# Altium schematic symbol library Components.SchLib: 31 symbols
Pins are listed as number, name and electrical type; pins without a type are passive.

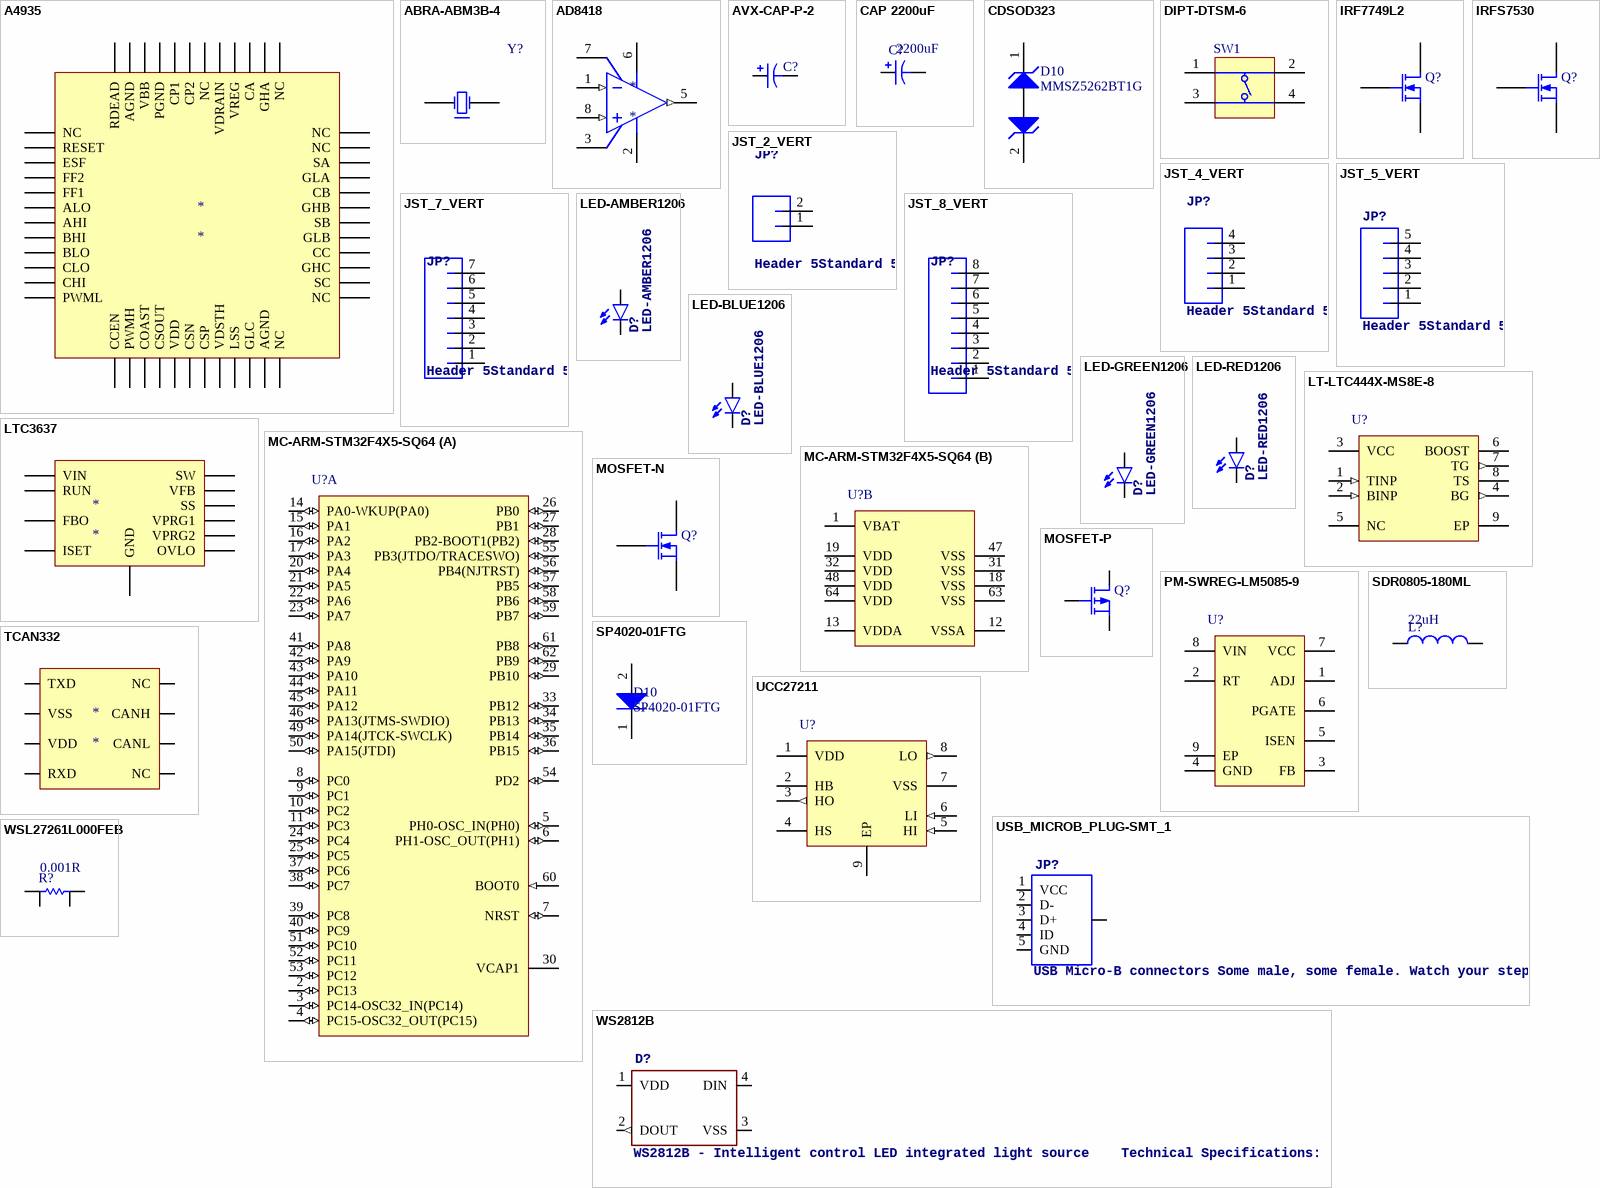
[diagram p0: symbols A4935 to WSL27261L000FEB]

## A4935
designator *
footprint LQFP-48; pin to pad 23>23+47+49 47>47+23+49
pins: 1 NC, 2 RESET, 3 ESF, 4 FF2, 5 FF1, 6 ALO, 7 AHI, 8 BHI, 9 BLO, 10 CLO, 11 CHI, 12 PWML, 13 CCEN, 14 PWMH, 15 COAST, 16 CSOUT, 17 VDD, 18 CSN, 19 CSP, 20 VDSTH, 21 LSS, 22 GLC, 23 AGND, 24 NC, 25 NC, 26 SC, 27 GHC, 28 CC, 29 GLB, 30 SB, 31 GHB, 32 CB, 33 GLA, 34 SA, 35 NC, 36 NC, 37 NC, 38 GHA, 39 CA, 40 VREG, 41 VDRAIN, 42 NC, 43 CP2, 44 CP1, 45 PGND, 46 VBB, 47 AGND, 48 RDEAD

## ABRA-ABM3B-4
designator Y?
footprint ABRA-ABM3B-4_V (SMT Crystal, 4-Leads, Body 5.2x3.4mm)
pins: 1 X1, 2, 3 X2

## AD8418
designator *
footprint MSOP-8 (SOP, 8-Leads, Body 3x3mm, Pitch 0.65mm, IPC Medium Density)
pins: 1 IN- (in), 2 GND (power), 3 VREF2, 5 OUT (out), 6 VS (power), 7 VREF1, 8 IN+ (in)

## AVX-CAP-P-2
designator C?
footprint AVX-CAPC7343_V (SMT Capacitor, 2 Leads, Body 7.3x4.3mm)
pins: 1, 2

## CAP 2200uF
designator C?  value 2200uF
Polarized Capacitor (Axial); Published: 8-Jun-2000; LatestRevisionDate: 17-Jul-2002; LatestRevisionNote: Re-released for DXP Platform.; PackageReference: POLAR0.8; Publisher: Altium Limited; PackageDescription: Polarized Capacitor; 2 Leads
simulation model CAP (Capacitor)
signal-integrity model Cap Pol
footprint BulkCapacitor
pins: 1, 2
1 alternate drawing of the same symbol

## CDSOD323
designator D10, comment MMSZ5262BT1G
Zener Voltage Regulator, 500 mW, 2-Pin SOD-123, Pb-Free, Tape and Reel; Manufacturer: On Semiconductor; P Max (W): 0.5; VZ Typ (V): 51; PartNumber: MMSZ5262BT1G; PackageVersion: Rev. G, 10/2009; ComponentLink3Description: Package Specification; PackageReference: SOD-123-2-425-04; PackageDescription: 2-Pin SOD, Body 1.6 x 2.69 mm; ComponentLink1Description: Manufacturer URL; ComponentLink2Description: Datasheet; DatasheetVersion: Rev. 12; Mounting Technology: Surface Mount; Packing: Tape and Reel; RoHS: Pb-Free; ComponentLink1URL: http://www.onsemi.com/; ComponentLink3URL: http://www.onsemi.com/pub_link/Collateral/425-04.PDF; ComponentLink2URL: http://www.onsemi.com/pub_link/Collateral/MMSZ5221BT1-D.PDF
footprint SOD323 (SODFL, 2-Leads, Body 1.30x2.57mm, IPC Medium Density)
pins: 1 K, 2 K

## DIPT-DTSM-6
designator SW1
Switch, SPNO Push Button SMD; Manufacturer: Diptronics; PartNumber: DTSM-61NT/R; Packing Type: Tape&Reel; Mechanical Life: 200,000 cycles; ComponentLink2URL: http://www.dip.com.tw/Products_tact.htm; ComponentLink1URL: http://www.dip.com.tw/; ComponentLink3URL: http://www.dip.com.tw/PDF/pro_tact/DTSM_G_-6_2_-V.pdf; PackageDescription: Switch, Through-Hole, 4 Leads, Body 8.5x8.5mm, Row Spacing 9.0mm, Pitch 4.5mm; ComponentLink2Description: Datasheet; ComponentLink3Description: Package Specification; ComponentLink1Description: Manufacturer URL; PackageReference: DTSM-6; Mounting Technology: Through Hole
footprint DIPT-DTSM-6_V (Switch, Through-Hole, 4 Leads, Body 8.5x8.5mm, Row Spacing 9.0mm, Pitch 4.5mm)
footprint SWITCH
pins: 1 T1, 2 T2, 3 T3, 4 T3

## IRF7749L2
designator Q?
N-Channel MOSFET; Published: 8-Jun-2000; LatestRevisionDate: 17-Jul-2002; LatestRevisionNote: Re-released for DXP Platform.; PackageVersion: 1995/1996; PackageReference: E3; Publisher: Altium Limited; PackageDescription: TO, Flat Index; 3 In-Line, Axial Leads; Body Dia. 4.6mm; Lead Dia. 0.5 mm (max)
footprint DIRECTFET-9
pins: 1 G, 2 S, 3 D

## IRFS7530
designator Q?
N-Channel MOSFET; Published: 8-Jun-2000; LatestRevisionDate: 17-Jul-2002; LatestRevisionNote: Re-released for DXP Platform.; PackageVersion: 1995/1996; PackageReference: E3; Publisher: Altium Limited; PackageDescription: TO, Flat Index; 3 In-Line, Axial Leads; Body Dia. 4.6mm; Lead Dia. 0.5 mm (max)
footprint DPAK127P1525X483-7N (D2-PAK, 7-Pads, Body 7.93x8.63mm (max), IPC Medium Density); pin to pad 1>8 2>1 3>2
pins: 1 D, 2 G, 3 S

## JST_2_VERT
designator JP?, comment Header 5Standard 5-pin 0.1" header. Use with straight break away headers (SKU : PRT-00116), right angle break away headers (PRT-00553), swiss pins (PRT-00743), machine pins (PRT-00117), and female headers (PRT-00115). Molex polarized connector foot print use with SKU : PRT-08230 with associated crimp pins and housings.
footprint JST-2-PTH-VERT
pins: 1, 2

## JST_4_VERT
designator JP?, comment Header 5Standard 5-pin 0.1" header. Use with straight break away headers (SKU : PRT-00116), right angle break away headers (PRT-00553), swiss pins (PRT-00743), machine pins (PRT-00117), and female headers (PRT-00115). Molex polarized connector foot print use with SKU : PRT-08230 with associated crimp pins and housings.
footprint JST-4-PTH-VERT
pins: 1, 2, 3, 4

## JST_5_VERT
designator JP?, comment Header 5Standard 5-pin 0.1" header. Use with straight break away headers (SKU : PRT-00116), right angle break away headers (PRT-00553), swiss pins (PRT-00743), machine pins (PRT-00117), and female headers (PRT-00115). Molex polarized connector foot print use with SKU : PRT-08230 with associated crimp pins and housings.
footprint JST-5-PTH-VERT
pins: 1, 2, 3, 4, 5

## JST_7_VERT
designator JP?, comment Header 5Standard 5-pin 0.1" header. Use with straight break away headers (SKU : PRT-00116), right angle break away headers (PRT-00553), swiss pins (PRT-00743), machine pins (PRT-00117), and female headers (PRT-00115). Molex polarized connector foot print use with SKU : PRT-08230 with associated crimp pins and housings.
footprint JST-7-PTH-VERT
pins: 1, 2, 3, 4, 5, 6, 7

## JST_8_VERT
designator JP?, comment Header 5Standard 5-pin 0.1" header. Use with straight break away headers (SKU : PRT-00116), right angle break away headers (PRT-00553), swiss pins (PRT-00743), machine pins (PRT-00117), and female headers (PRT-00115). Molex polarized connector foot print use with SKU : PRT-08230 with associated crimp pins and housings.
footprint JST-8-PTH-VERT
pins: 1, 2, 3, 4, 5, 6, 7, 8

## LED-AMBER1206
designator D?
footprint LED-1206
pins: A, C

## LED-BLUE1206
designator D?
PROD_ID: DIO-09911
footprint LED-1206
pins: A, C

## LED-GREEN1206
designator D?
PROD_ID: DIO-00862
footprint LED-1206
pins: A, C

## LED-RED1206
designator D?
PROD_ID: DIO-09912
footprint LED-1206
pins: A, C

## LT-LTC444X-MS8E-8
designator U?
footprint LT-MS8E-8-EDP_L (SOP, 8-Leads, Body 3.1x3.1mm, Pitch 0.65mm, Thermal Pad 1.88x1.68mm, IPC High Density)
pins: 1 TINP (in) "High Side Input Signal. Input referenced to GND. This input controls the high side driver output (TG).", 2 BINP (in) "Low Side Input Signal. This input controls the low side driver output (BG).", 3 VCC (power) "Supply. This pin powers input buffers, logic and the low side gate driver output directly and the high side gate driver output through an external diode connected between this pin and BOOST (Pin 6). A low ESR ceramic bypass (See Datasheet)", 4 BG (out) "Low Side Gate Driver Output (Bottom Gate).This pin swings between VCC and GND.", 5 NC "No Connect. No connection required.", 6 BOOST "High Side Bootstrapped Supply. An external capacitor should be tied between this pin and TS (Pin 8). Normally, a bootstrap diode is connected between VCC (Pin 3) and this pin. Voltage swing at this pin is from VCC - VD to (See Datasheet)", 7 TG (out) "High Side Gate Driver Output (Top Gate). This pin swings between TS and BOOST.", 8 TS "High Side MOSFET Source Connection (TopSource)", 9 EP (power) "Ground. Must be soldered to PCB ground for optimal thermal performance."

## LTC3637
designator *
footprint SON50P300X85_HS-17N (SON, 16-Leads, Body 5.00x3.00mm, Pitch 0.50mm, Thermal Pad 4.40x1.49mm, IPC Medium Density); pin to pad 17>8+16+17
pins: 1 SW, 3 VIN, 5 FBO, 6 VPRG2, 7 VPRG1, 9 VFB, 10 SS, 11 ISET, 12 OVLO, 14 RUN, 17 GND

## MC-ARM-STM32F4X5-SQ64
designator U?
footprint STM-LQFP64_N (Thin QFP, 64-Leads, Body 10x10mm, Pitch 0.5mm, IPC Medium Density)
part A pins: 2 PC13 (io) "PC13/EVENTOUT/RTC_OUT,RTC_TAMP1,RTC_TS", 3 PC14-OSC32_IN(PC14) (io) "PC14-OSC32_IN(PC14)/EVENTOUT/OSC32_IN", 4 PC15-OSC32_OUT(PC15) (io) "PC15-OSC32_OUT(PC15)/EVENTOUT/OSC32_OUT", 5 PH0-OSC_IN(PH0) (io) "PH0-OSC_IN(PH0)/EVENTOUT/OSC_IN", 6 PH1-OSC_OUT(PH1) (io) "PH1-OSC_OUT(PH1)/EVENTOUT/OSC_OUT", 7 NRST (io), 8 PC0 (io) "PC0/OTG_HS_ULPI_STP/EVENTOUT/ADC123_IN10", 9 PC1 (io) "PC1/ETH_MDC/EVENTOUT/ADC123_IN11", 10 PC2 (io) "PC2/SPI2_MISO/OTG_HS_ULPI_DIR/ETH_MII_TXD2/I2S2ext_SD/EVENTOUT/ADC123_IN12", 11 PC3 (io) "PC3/SPI2_MOSI/I2S2_SD/OTG_HS_ULPI_NXT/ETH_MII_TX_CLK/EVENTOUT/ADC123_IN13", 14 PA0-WKUP(PA0) (io) "PA0-WKUP(PA0)/USART2_CTS/UART4_TX/ETH_MII_CRS/TIM2_CH1_ETR/TIM5_CH1/TIM8_ETR/EVENTOUT/ADC123_IN0/WKUP", 15 PA1 (io) "PA1/USART2_RTS/UART4_RX/ETH_RMII_REF_CLK/ETH_MII_RX_CLK/TIM5_CH2/TIM2_CH2/EVENTOUT/ADC123_IN1", 16 PA2 (io) "PA2/USART2_TX/TIM5_CH3/TIM9_CH1/TIM2_CH3/ETH_MDIO/EVENTOUT/ADC123_IN2", 17 PA3 (io) "PA3/USART2_RX/TIM5_CH4/TIM9_CH2/TIM2_CH4/OTG_HS_ULPI_D0/ETH_MII_COL/EVENTOUT/ADC123_IN3", 20 PA4 (io) "PA4/SPI1_NSS/SPI3_NSS/USART2_CK/DCMI_HSYNC/OTG_HS_SOF/I2S3_WS/EVENTOUT/ADC12_IN4/DAC_OUT1", 21 PA5 (io) "PA5/SPI1_SCK/OTG_HS_ULPI_CK/TIM2_CH1_ETR/TIM8_CH1N/EVENTOUT/ADC12_IN5/DAC_OUT2", 22 PA6 (io) "PA6/SPI1_MISO/TIM8_BKIN/TIM13_CH1/DCMI_PIXCLK/TIM3_CH1/TIM1_BKIN/EVENTOUT/ADC12_IN6", 23 PA7 (io) "PA7/SPI1_MOSI/TIM8_CH1N/TIM14_CH1/TIM3_CH2/ETH_MII_RX_DV/TIM1_CH1N/ETH_RMII_CRS_DV/EVENTOUT/ADC12_IN7", 24 PC4 (io) "PC4/ETH_RMII_RX_D0/ETH_MII_RX_D0/EVENTOUT/ADC12_IN14", 25 PC5 (io) "PC5/ETH_RMII_RX_D1/ETH_MII_RX_D1/EVENTOUT/ADC12_IN15", 26 PB0 (io) "PB0/TIM3_CH3/TIM8_CH2N/OTG_HS_ULPI_D1/ETH_MII_RXD2/TIM1_CH2N/EVENTOUT/ADC12_IN8", 27 PB1 (io) "PB1/TIM3_CH4/TIM8_CH3N/OTG_HS_ULPI_D2/ETH_MII_RXD3/TIM1_CH3N/EVENTOUT/ADC12_IN9", 28 PB2-BOOT1(PB2) (io) "PB2-BOOT1(PB2)/EVENTOUT", 29 PB10 (io) "PB10/SPI2_SCK/I2S2_CK/I2C2_SCL/USART3_TX/OTG_HS_ULPI_D3/ETH_MII_RX_ER/TIM2_CH3/EVENTOUT", 30 VCAP1 (power) "PB11/I2C2_SDA/USART3_RX/OTG_HS_ULPI_D4/ETH_RMII_TX_EN/ETH_MII_TX_EN/TIM2_CH4/EVENTOUT", 33 PB12 (io) "PB12/SPI2_NSS/I2S2_WS/I2C2_SMBA/USART3_CK/TIM1_BKIN/CAN2_RX/OTG_HS_ULPI_D5/ETH_RMII_TXD0/ETH_MII_TXD0/OTG_HS_ID/EVENTOUT", 34 PB13 (io) "PB13/SPI2_SCK/I2S2_CK/USART3_CTS/TIM1_CH1N/CAN2_TX/OTG_HS_ULPI_D6/ETH_RMII_TXD1/ETH_MII_TXD1/EVENTOUT/OTG_HS_VBUS", 35 PB14 (io) "PB14/SPI2_MISO/TIM1_CH2N/TIM12_CH1/OTG_HS_DM/USART3_RTS/TIM8_CH2N/I2S2ext_SD/EVENTOUT", 36 PB15 (io) "PB15/SPI2_MOSI/I2S2_SD/TIM1_CH3N/TIM8_CH3N/TIM12_CH2/OTG_HS_DP/EVENTOUT/RTC_REFIN", 37 PC6 (io) "PC6/I2S2_MCK/TIM8_CH1/SDIO_D6/USART6_TX/DCMI_D0/TIM3_CH1/EVENTOUT", 38 PC7 (io) "PC7/I2S3_MCK/TIM8_CH2/SDIO_D7/USART6_RX/DCMI_D1/TIM3_CH2/EVENTOUT", 39 PC8 (io) "PC8/TIM8_CH3/SDIO_D0/TIM3_CH3/USART6_CK/DCMI_D2/EVENTOUT", 40 PC9 (io) "PC9/I2S_CKIN/MCO2/TIM8_CH4/SDIO_D1/I2C3_SDA/DCMI_D3/TIM3_CH4/EVENTOUT", 41 PA8 (io) "PA8/MCO1/USART1_CK/TIM1_CH1/I2C3_SCL/OTG_FS_SOF/EVENTOUT", 42 PA9 (io) "PA9/USART1_TX/TIM1_CH2/I2C3_SMBA/DCMI_D0/EVENTOUT/OTG_FS_VBUS", 43 PA10 (io) "PA10/USART1_RX/TIM1_CH3/OTG_FS_ID/DCMI_D1/EVENTOUT", 44 PA11 (io) "PA11/USART1_CTS/CAN1_RX/TIM1_CH4/OTG_FS_DM/EVENTOUT", 45 PA12 (io) "PA12/USART1_RTS/CAN1_TX/TIM1_ETR/OTG_FS_DP/EVENTOUT", 46 PA13(JTMS-SWDIO) (io) "PA13(JTMS-SWDIO)/JTMS-SWDIO/EVENTOUT", 49 PA14(JTCK-SWCLK) (io) "PA14(JTCK-SWCLK)/JTCK-SWCLK/EVENTOUT", 50 PA15(JTDI) (io) "PA15(JTDI)/JTDI/SPI3_NSS/I2S3_WS/TIM2_CH1_ETR/SPI1_NSS/EVENTOUT", 51 PC10 (io) "PC10/SPI3_SCK/I2S3_CK/UART4_TX/SDIO_D2/DCMI_D8/USART3_TX/EVENTOUT", 52 PC11 (io) "PC11/UART4_RX/SPI3_MISO/SDIO_D3/DCMI_D4/USART3_RX/I2S3ext_SD/EVENTOUT", 53 PC12 (io) "PC12/UART5_TX/SDIO_CK/DCMI_D9/SPI3_MOSI/I2S3_SD/USART3_CK/EVENTOUT", 54 PD2 (io) "PD2/TIM3_ETR/UART5_RX/SDIO_CMD/DCMI_D11/EVENTOUT", 55 PB3(JTDO/TRACESWO) (io) "PB3(JTDO/TRACESWO)/JTDO/TRACESWO/SPI3_SCK/I2S3_CK/TIM2_CH2/SPI1_SCK/EVENTOUT", 56 PB4(NJTRST) (io) "PB4(NJTRST)/NJTRST/SPI3_MISO/TIM3_CH1/SPI1_MISO/I2S3ext_SD/EVENTOUT", 57 PB5 (io) "PB5/I2C1_SMBA/CAN2_RX/OTG_HS_ULPI_D7/ETH_PPS_OUT/TIM3_CH2/SPI1_MOSI/SPI3_MOSI/DCMI_D10/I2S3_SD/EVENTOUT", 58 PB6 (io) "PB6/I2C1_SCL/TIM4_CH1/CAN2_TX/DCMI_D5/USART1_TX/EVENTOUT", 59 PB7 (io) "PB7/I2C1_SDA/FSMC_NL/DCMI_VSYNC/USART1_RX/TIM4_CH2/EVENTOUT", 60 BOOT0 (in) "BOOT0/VPP", 61 PB8 (io) "PB8/TIM4_CH3/SDIO_D4/TIM10_CH1/DCMI_D6/ETH_MII_TXD3/I2C1_SCL/CAN1_RX/EVENTOUT", 62 PB9 (io) "PB9/SPI2_NSS/I2S2_WS/TIM4_CH4/TIM11_CH1/SDIO_D5/DCMI_D7/I2C1_SDA/CAN1_TX/EVENTOUT"
part B pins: 1 VBAT (power), 12 VSSA (power), 13 VDDA (power), 18 VSS (power), 19 VDD (power), 31 VSS (power) "VCAP_1", 32 VDD (power), 47 VSS (power) "VCAP_2", 48 VDD (power), 63 VSS (power), 64 VDD (power)

## MOSFET-N
designator Q?
N-Channel MOSFET; Published: 8-Jun-2000; LatestRevisionDate: 17-Jul-2002; LatestRevisionNote: Re-released for DXP Platform.; PackageVersion: 1995/1996; PackageReference: E3; Publisher: Altium Limited; PackageDescription: TO, Flat Index; 3 In-Line, Axial Leads; Body Dia. 4.6mm; Lead Dia. 0.5 mm (max)
footprint DPAK127P1525X483-7N (D2-PAK, 7-Pads, Body 7.93x8.63mm (max), IPC Medium Density)
footprint SOT323-3 (SOT23, 3-Leads, Body 2.00x2.10mm, Pitch 0.65mm, IPC Medium Density)
footprint DIRECTFET-9
pins: 1 G, 2 S, 3 D

## MOSFET-P
designator Q?  (value not drawn)
P-Channel MOSFET; Published: 8-Jun-2000; LatestRevisionDate: 17-Jul-2002; LatestRevisionNote: Re-released for DXP Platform.; PackageVersion: 1995/1996; PackageReference: E3; Publisher: Altium Limited; PackageDescription: TO, Flat Index; 3 In-Line, Axial Leads; Body Dia. 4.6mm; Lead Dia. 0.5 mm (max)
footprint SOT23-3
footprint SOIC127P600X175-8N (SOIC, 8-Leads, Body 4.90x3.90mm, Pitch 1.27mm, IPC Medium Density); pin to pad 1>2 2>3 3>1
pins: 1 G, 2 D, 3 S

## PM-SWREG-LM5085-9
designator U?
footprint MUY08A_N (TSOP, 8-Leads, Body 3x3mm, Pitch 0.65mm, Thermal Pad, IPC Medium Density)
pins: 1 ADJ, 2 RT, 3 FB, 4 GND (power), 5 ISEN, 6 PGATE, 7 VCC (power), 8 VIN, 9 EP

## SDR0805-180ML
designator L?  value 22uH
Inductor; Code_IEC: 1005; Published: 8-Jun-2000; LatestRevisionDate: 29-May-2009; LatestRevisionNote: IPC-7351 Footprint Added.; PackageReference: 0402-A; Publisher: Altium Limited; PackageDescription: Chip Inductor; Code_JEITA: 0402
simulation model INDUCTOR (Inductor)
signal-integrity model Inductor
footprint SDR0805-180ML
footprint IHLP-4040DZ-51
footprint SDR0604
pins: 1, 2

## SP4020-01FTG
designator D10
PartNumber: MMSZ5262BT1G; Manufacturer: On Semiconductor; P Max (W): 0.5; Packing: Tape and Reel; VZ Typ (V): 51; PackageVersion: Rev. G, 10/2009; ComponentLink3Description: Package Specification; PackageReference: SOD-123-2-425-04; PackageDescription: 2-Pin SOD, Body 1.6 x 2.69 mm; ComponentLink1Description: Manufacturer URL; ComponentLink2Description: Datasheet; DatasheetVersion: Rev. 12; Mounting Technology: Surface Mount; RoHS: Pb-Free; ComponentLink1URL: http://www.onsemi.com/; ComponentLink3URL: http://www.onsemi.com/pub_link/Collateral/425-04.PDF; ComponentLink2URL: http://www.onsemi.com/pub_link/Collateral/MMSZ5221BT1-D.PDF
footprint SOD323 (SODFL, 2-Leads, Body 1.30x2.57mm, IPC Medium Density)
pins: 1 K, 2 A

## TCAN332
designator *
footprint SOT65P280X145-6N (SOT23, 6-Leads, Body 2.90x2.80mm, Pitch 0.65mm, IPC Medium Density)
footprint SOIC8 (SOIC, 8-Leads, Body 4.90x3.90mm, Pitch 1.27mm, IPC Medium Density)
pins: 1 TXD, 2 VSS, 3 VDD, 4 RXD, 5 NC, 6 CANL, 7 CANH, 8 NC

## UCC27211
designator U?
footprint DFN8 (SON, 8-Leads, Body 3.00x3.00mm, Pitch 0.65mm, Thermal Pad 2.00x1.47mm, IPC Medium Density)
pins: 1 VDD (power) "Supply. This pin powers input buffers, logic and the low side gate driver output directly and the high side gate driver output through an external diode connected between this pin and BOOST (Pin 6). A low ESR ceramic bypass (See Datasheet)", 2 HB, 3 HO (out), 4 HS, 5 HI (in), 6 LI (in), 7 VSS (power), 8 LO (out), 9 EP (power) "Ground. Must be soldered to PCB ground for optimal thermal performance."

## USB_MICROB_PLUG-SMT_1
designator JP?, comment USB Micro-B connectors Some male, some female. Watch your step!
PROD_ID: CONN-09900
footprint USB-MICROB; pin to pad 1>VBUS 2>D- 3>D+ 4>ID 5>GND 6>MT1+P$1+P$2+MT2
pins: 1 VCC, 2 D-, 3 D+, 4 ID, 5 GND, 6 SHIELD

## WS2812B
designator D?, comment WS2812B - Intelligent control LED integrated light source    Technical Specifications:  Power Supply Voltage (VDD): 3.5 to 5.3 V  Input Voltage (VI): -0.5 to VDD+0.5 V  Operating Junction Temperature (Topt): -25°C to +80°C  Storage Temperature Range (Tstg): -55°C to +150°C
PROD_ID: DIO-12503
footprint WS2812B
pins: 1 VDD (power), 2 DOUT (out), 3 VSS (power), 4 DIN

## WSL27261L000FEB
designator R?  value 0.001R
Resistor; Published: 8-Jun-2000; LatestRevisionDate: 17-Jul-2002; LatestRevisionNote: Re-released for DXP Platform.; PackageReference: AXIAL-0.3; Publisher: Altium Limited; PackageDescription: Axial Device, Thru-Hole; 2 Leads; 0.3 in Pin Spacing
simulation model RESISTOR (Resistor)
signal-integrity model Res
footprint WSL2726
pins: 1, 2, 3, 4